# Altium footprint library MaryLab Projets.PcbLib: 43 footprints (part 3 of 3)
Each footprint in its own frame and in the unit in brackets; x right, y up, seen from the top. Pads: shape width x height; smd on the part's side, far side on the other; paste and mask are expansions set on the pad; w line width, h text height; cw(c..) or ccw(c..) is an arc to the next point about the centre after c.
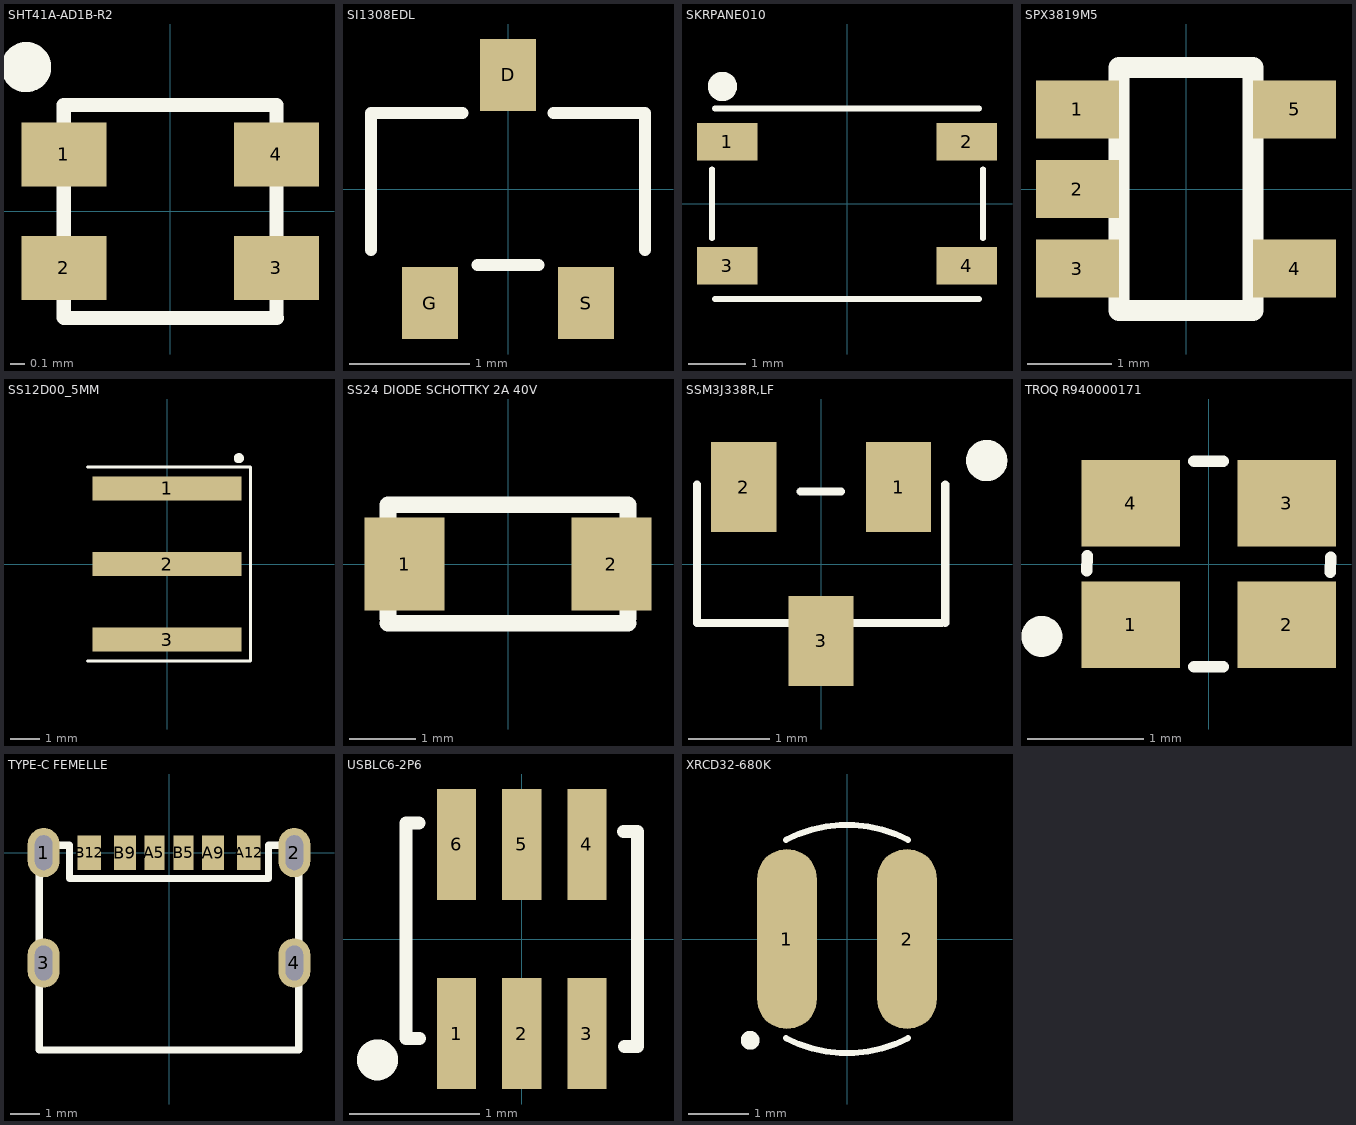
[diagram p2: the footprints below, top view; thin cyan lines are the x and y axes]

## SHT41A-AD1B-R2 [mm] "4th Gen Humidity and Temperature Sensor I2C"
pads (4):
  rect 0.6x0.45 smd: 1(-0.75,0.4) 2(-0.75,-0.4) 3(0.75,-0.4) 4(0.75,0.4)
Top Overlay:
  circle w0.254: c-1.016,1.016 r0.05
  lines w0.1: -0.75,-0.75 -0.75,0.75 0.75,0.75 0.75,-0.75 ; -0.747,-0.753 0.753,-0.753
3D body "DFN 1,2x1,6x0,5mm 4 leads.stp": height 0.6, standoff 0, extent -0.85,-0.65 0.85,0.65

## SI1308EDL [mm] "SOT323 N-Channel MOSFET"
pads (3):
  rect 0.47x0.6 smd: D(0,0.95) G(-0.65,-0.95) S(0.65,-0.95)
Top Overlay:
  lines w0.1: -1.143,-0.508 -1.143,0.635 -0.381,0.635 ; -0.254,-0.635 0.254,-0.635 ; 0.381,0.635 1.143,0.635 1.143,-0.508
3D body "SOT323 (SC70-3)-1.STEP": height 1.1, standoff 0, extent -1.1,-1.123 1.1,1.123

## SKRPANE010 [mm] "ALPSALPINE SKRPANE010 Push button"
pads (4):
  rect 1.05x0.65 smd: 1(-2.075,1.075) 2(2.075,1.075) 3(-2.075,-1.075) 4(2.075,-1.075)
Top Overlay:
  circle w0.254: c-2.159,2.032 r0.127
  lines w0.1: -2.341,-0.6 -2.34,0.595 ; -2.286,-1.651 2.286,-1.651 ; -2.286,1.651 2.286,1.651 ; 2.358,-0.6 2.359,0.595
3D body "skrpace010.step": height 2.5, standoff 0, extent -2.3,-1.6 2.3,1.6

## SPX3819M5 [mm] "IC REG LINEAR 5V 500MA SOT23-5"
pads (5):
  rect 0.99x0.69 smd: 1(-1.295,0.95) 2(-1.295,0) 3(-1.295,-0.95) 4(1.295,-0.95) 5(1.295,0.95)
Top Overlay:
  lines w0.254: -0.8,-1.45 0.8,-1.45 0.8,1.45 -0.8,1.45 -0.8,-1.45
3D body "SOT23_5.stp": height 0.87, standoff -0.04, extent -1.602,-1.524 1.602,1.476

## SS12D00_5MM [mm] "SS12D00 - 5mm pin length / SMD footprint"
pads (3):
  rect 5x0.8 smd: 1(0,2.54) 2(0,0) 3(0,-2.54)
Top Overlay:
  circle w0.254: c2.413,3.556 r0.042
  lines w0.1: -2.667,-3.256 2.794,-3.256 2.794,3.255 -2.667,3.255
3D body "Selector Switch - SS12D00.stp": height 2, standoff -1.71, extent -8.662,-4.293 0.837,4.293

## SS24 DIODE SCHOTTKY 2A 40V [mm] "2A, 40V - 200V Schottky Barrier Surface Mount Rectifier"
pads (2):
  rect 1.2x1.4 smd: 1(-1.55,0) 2(1.55,0)
Top Overlay:
  lines w0.254: -1.8,-0.889 1.8,-0.889 ; -1.8,-0.811 -1.8,0.889 1.8,0.889 1.8,-0.811

## SSM3J338R,LF [mm] "12V 6A 17.6mO@8V,6A 1W P Channel SOT-23(TO-236) MOSFETs ROHS"
pads (3):
  rect 0.8x1.11 smd: 1(0.95,0.945) 2(-0.95,0.945) 3(0,-0.945)
Top Overlay:
  circle w0.254: c2.032,1.27 r0.127
  lines w0.1: -1.524,0.977 -1.524,-0.723 1.476,-0.723 ; -0.254,0.889 0.242,0.889 ; 1.524,-0.723 1.524,0.977
3D body "SOT23-3.step": height 1.1, standoff 0, extent -1.5,-1.25 1.5,1.25

## TROQ R940000171 [mm] "40MHz 9pF ±10ppm SMD2016-4P Crystals ROHS"
pads (4):
  rect 0.85x0.75 smd: 1(-0.675,-0.525) 2(0.675,-0.525) 3(0.675,0.525) 4(-0.675,0.525)
Top Overlay:
  circle w0.254: c-1.442,-0.625 r0.05
  lines w0.1: -1.053,-0.06 -1.051,0.072 ; -0.127,-0.889 0.127,-0.889 ; -0.127,0.889 0.127,0.889 ; 1.051,-0.072 1.053,0.06
3D body "40MHz Oscillator.step": height 0.5, standoff 0, extent -1,-0.8 1,0.8

## TYPE-C FEMELLE [mm] "USB4125-GF-A / CONN RCPT TYPE C 6P SMD RA"
pads (10):
  rrect100% 1.1x1.7 hole 1.2 slot 0.6 at 0 deg: 1(-4.32,0) 2(4.32,0) 3(-4.32,-3.8) 4(4.32,-3.8)
  rect 0.7x1.2 smd: A5(-0.5,0) B5(0.5,0)
  rect 0.76x1.2 smd: A9(1.52,0) B9(-1.52,0)
  rect 0.8x1.2 smd: A12(2.75,0) B12(-2.75,0)
Top Overlay:
  lines w0.254: -4.47,-6.8 -4.47,0 -3.937,0 -3.937,0.254 -3.429,0.254 -3.429,-0.889 3.429,-0.889 3.429,0.254 3.937,0.254 3.937,0 4.47,0 4.47,-6.8 -4.47,-6.8
3D body "USB4125-GF-A.stp": height 3.26, standoff -1, extent -4.47,-6.392 4.47,0.508

## USBLC6-2P6 [mm] "SOT-563 ESD Protection Devices ROHS"
pads (6):
  rect 0.3x0.85 smd: 1(-0.5,-0.725) 2(0,-0.725) 3(0.5,-0.725) 4(0.5,0.725) 5(0,0.725) 6(-0.5,0.725)
Top Overlay:
  circle w0.254: c-1.106,-0.926 r0.03
  lines w0.1: -0.789,0.889 -0.889,0.889 -0.889,-0.762 -0.782,-0.762 ; 0.782,0.825 0.889,0.825 0.889,-0.825 0.789,-0.825
3D body "SOT563.STEP": height 0.53, standoff -0.02, extent -0.806,-0.789 0.794,0.811

## XRCD32-680K [mm] "275mA 68uH ±10% 1.45Ω SMD,2.1x3mm Inductors (SMD) ROHS"
pads (2):
  oval 1x3 smd: 1(-1,0) 2(1,0)
Top Overlay:
  circle w0.254: c-1.614,-1.688 r0.03
  lines w0.1: -1.016,-1.651 ccw(c0,0.254) 1.016,-1.651 ; -1.016,1.651 cw(c0,-0.254) 1.016,1.651
3D body "XRCD32-680K.step": height 2.1, standoff 0, extent -1.551,-1.715 1.551,1.715